# EAGLE library part 691411710003 (library Terminal_Blocks_Connectors_rev15e)
WR-TBL Terminal block - serie 411 5,0mm - Spring clamp/Screw less - Horizontal entry - 03p Code:Con_TBL_Screwless_5.00_6914117100xxB_691411710003 <http://katalog.we-online.de/media/images/eican/Con_TBL_Screwless_5.00_6914117100xxB_pf2.jpg> Details see: http://katalog.we-online.de/en/em/691_411_710_0xx/691_411_710_003B?m Created 2014-12-22, aslant tao 2014 (C) Würth Elektronik
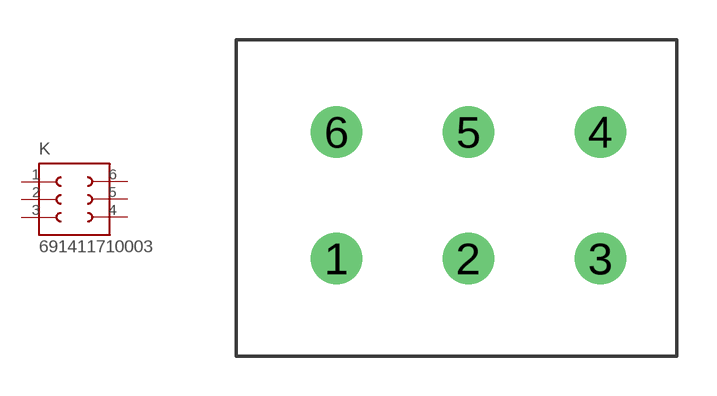
[diagram p302: symbol with the pads of 691411710003; footprint 691411710003]

Designator prefix K

## 691411710003  [691411710003]
1  1  pas
2  2  pas
3  3  pas
4  4  pas
5  5  pas
6  6  pas

## Footprint 691411710003 (pad centres in mm)
WR-TBL Serie 411 - 5.0mm Screwless Horizontal Entry - 2 mm2 Wires, 3 Pins
drill 1.3: 1 -5,0; 2 0,0; 3 5,0; 4 5,4.8; 5 0,4.8; 6 -5,4.8